# EAGLE library part LM2750SD-5.0 (library LM2750SD-5.0)
IC CONV REG SW CAP 5V
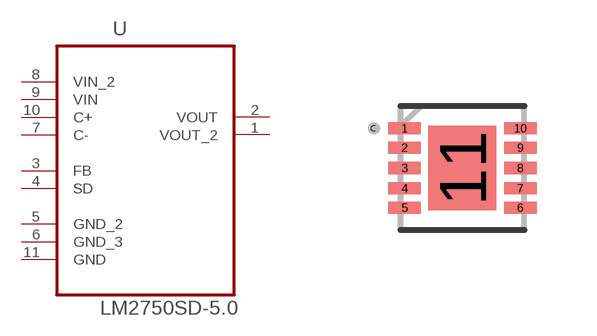
[diagram p0: symbol with the pads of DFN300X300X80-11N; footprint DFN300X300X80-11N]

Designator prefix U

## LM2750SD-5.0 (DESCRIPTION: Low Noise Regulator Switched Capacitor Boost Regulator 10-WSON -40 to 85; DIGI-KEY_PART_NUMBER: LM2750SD-5.0/NOPBCT-ND; DIGI-KEY_PURCHASE_URL: https://www.digikey.com/product-detail/en/texas-instruments/LM2750SD-5.0-NOPB/LM2750SD-5.0-NOPBCT-ND/953485?utm_source=snapeda&utm_medium=aggregator&utm_campaign=symbol; MF: Texas Instruments; MP: LM2750SD-5.0/NOPB; PACKAGE: WSON-10 Texas Instruments)  [DFN300X300X80-11N]
1  VOUT_2  out
2  VOUT  out
3  FB  pas
4  SD  pas
5  GND_2  pas
6  GND_3  pas
7  C-  pas
8  VIN_2  in
9  VIN  in
10  C+  out
11  GND  pas

## Footprint DFN300X300X80-11N (pad centres in mm)
smd 0.813 x 0.305: 1 -1.448,0.991; 2 -1.448,0.508; 3 -1.448,0; 4 -1.448,-0.508; 5 -1.448,-0.991; 6 1.448,-0.991; 7 1.448,-0.508; 8 1.448,0; 9 1.448,0.508; 10 1.448,0.991
smd 1.702 x 2.108: 11 0,0